# Altium footprint library 底板模块封装库.PcbLib: 15 footprints
Each footprint in its own frame and in the unit in brackets; x right, y up, seen from the top. Pads: shape width x height; smd on the part's side, far side on the other; paste and mask are expansions set on the pad; w line width, h text height; cw(c..) or ccw(c..) is an arc to the next point about the centre after c.
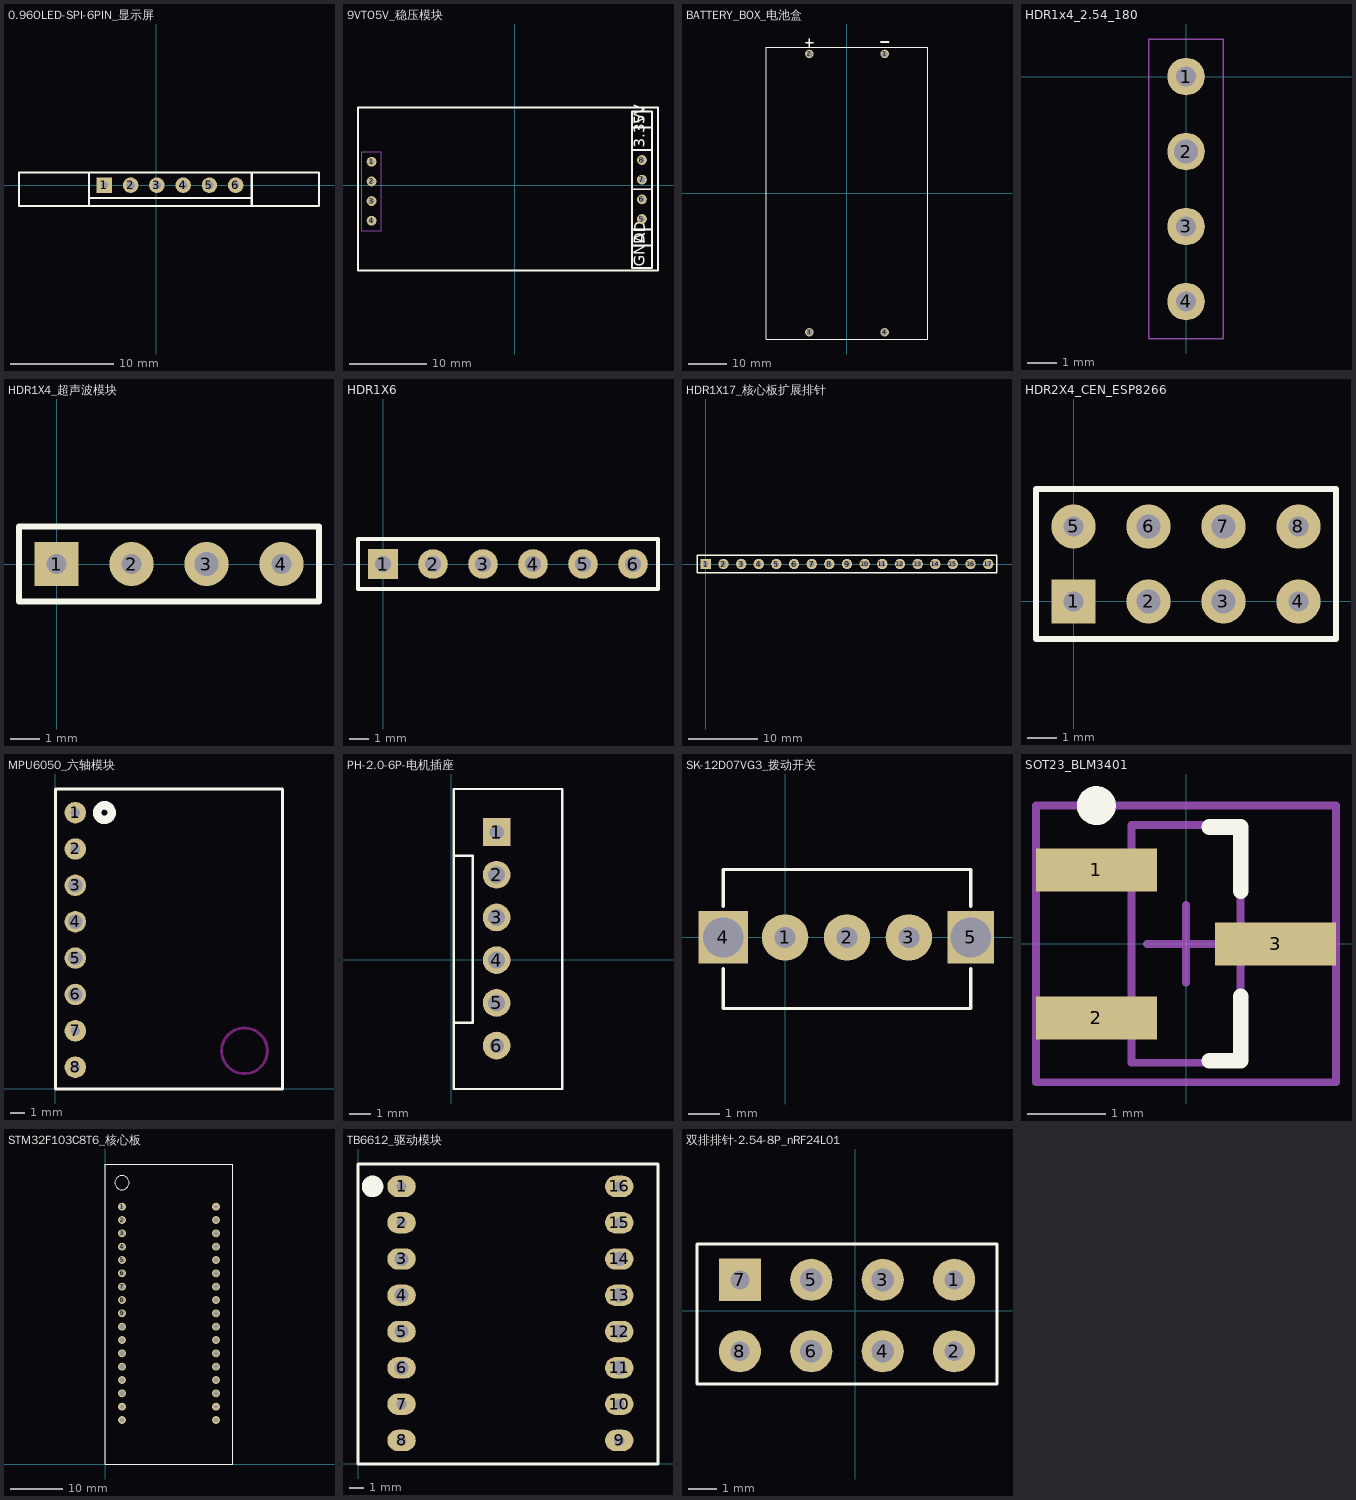
[diagram p0: the footprints below, top view; thin cyan lines are the x and y axes]

## 0.96OLED-SPI-6PIN_显示屏 [mm] "0.96OLED显示屏"
pads (6):
  rect 1.5x1.5 hole 0.68 unplated: 1(-5,0)
  round 1.5 hole 0.813 unplated: 2(-2.46,0) 3(0.08,0) 4(2.62,0)
  round 1.5 hole 0.813: 5(5.16,0)
  round 1.5 hole 0.68: 6(7.7,0)
Top Overlay:
  lines w0.1: -6.5,-1.27 9.25,-1.27 9.25,1.27 -6.5,1.27 -6.5,-1.27
  lines w0.2: -6.5,-2 -13.25,-2 -13.25,1.25 -6.5,1.25 ; -6.5,-2 9.25,-2 ; -6.5,-2 -6.5,-1.25 ; -6.5,-1.25 9.25,-1.25 ; -6.5,-1.25 -6.5,1.25 ; -6.5,1.25 9.25,1.25 ; 9.25,-2 15.75,-2 15.75,1.25 9.25,1.25 ; 9.25,-2 9.25,-1.25 ; 9.25,-1.25 9.25,1.25

## 9VTO5V_稳压模块 [mm]
pads (8):
  round 1.27 hole 0.68: 1(-18.495,3.025) 2(-18.495,0.485) 4(-18.495,-4.595) 5(16.424,-4.377) 6(16.424,-1.837) 8(16.424,3.243)
  round 1.27 hole 0.813: 3(-18.495,-2.055) 7(16.424,0.703)
Top Overlay:
  lines w0.254: 15.16,-7.77 17.7,-7.77 ; 15.16,-5.738 17.573,-5.738 ; 15.16,7.47 17.7,7.47 ; 17.573,4.549 15.16,4.549 ; 15.16,-0.531 17.7,-0.531 ; 15.16,-0.531 15.16,4.549 ; 15.16,-0.531 15.16,-10.691 17.7,-10.691 17.7,-0.531 ; 15.16,4.549 15.16,9.502 17.7,9.502 17.7,3.914 17.7,-0.531 ; -20.25,-11 18.5,-11 18.5,10 -20.25,10 -20.25,-11
  text "3.3V" at 16.811,4.803 h1.4
  text "5V" at 16.811,7.851 h1.4
  text "AD" at 16.826,-7.539 h1.4
  text "GND" at 16.811,-10.564 h1.4
Mechanical 15:
  lines w0.025: -18.749,-4.595 -18.241,-4.595 ; -18.495,-4.849 -18.495,-4.341 ; 16.17,-4.377 16.678,-4.377 ; 16.424,-4.631 16.424,-4.123
  lines w0.051: 15.154,-5.647 17.694,-5.647 17.694,4.513 15.154,4.513 ; -19.765,-5.865 -19.765,4.295 -17.225,4.295 -17.225,-5.865 -19.765,-5.865
3D body: height 8.2, standoff -3, extent -19.744,-5.865 -17.246,4.295
3D body: height 8.2, standoff -3, extent 15.175,-5.647 17.673,4.513

## BATTERY_BOX_电池盒 [mm]
pads (4):
  round 2.2 hole 1.6: 1(9.81,36.25) 2(-9.81,36.25) 3(-9.81,-36.25) 4(9.81,-36.25)
Top Overlay:
  lines w0.203: -21,-38 21,-38 21,38 -21,38 -21,-38
  lines w0.4: -10.795,39.116 -8.763,39.116 ; -9.779,38.1 -9.779,40.132
  lines w0.43: 8.763,39.37 10.795,39.37

## HDR1x4_2.54_180 [mm]
height 4.3
pads (4):
  round 1.27 hole 0.68: 1(0,0) 3(0,-5.08) 4(0,-7.62)
  round 1.27 hole 0.813: 2(0,-2.54)
Mechanical 15:
  lines w0.025: -0.254,0 0.254,0 ; 0,-0.254 0,0.254
  lines w0.051: -1.27,-8.89 -1.27,1.27 1.27,1.27 1.27,-8.89 -1.27,-8.89
3D body: height 8.2, standoff -3, extent -1.249,-8.89 1.249,1.27

## HDR1X4_超声波模块 [mm] "Connector; Header; 4 Position"
pads (4):
  rect 1.5x1.5 hole 0.68: 1(0,0)
  round 1.5 hole 0.68: 2(2.54,0) 4(7.62,0)
  round 1.5 hole 0.813: 3(5.08,0)
Top Overlay:
  lines w0.2: -1.27,-1.27 -1.27,1.27 8.89,1.27 8.89,-1.27 -1.27,-1.27

## HDR1X6 [mm] "Connector; Header; 6 Position"
height 0.9
pads (6):
  rect 1.5x1.5 hole 0.813: 1(0,0)
  round 1.5 hole 0.813: 2(2.54,0) 3(5.08,0) 4(7.62,0) 5(10.16,0) 6(12.7,0)
Top Overlay:
  lines w0.2: -1.27,-1.27 -1.27,1.27 13.97,1.27 13.97,-1.27 -1.27,-1.27

## HDR1X17_核心板扩展排针 [mm] "Connector; Header; 17 Position"
pads (17):
  rect 1.5x1.5 hole 0.8: 1(0,0)
  round 1.5 hole 0.813: 2(2.54,0) 3(5.08,0) 4(7.62,0) 5(10.16,0) 6(12.7,0) 7(15.24,0) 8(17.78,0) 9(20.32,0) 10(22.86,0) 11(25.4,0) 12(27.94,0) 13(30.48,0) 14(33.02,0) 15(35.56,0)
  round 1.5 hole 0.8: 16(38.1,0) 17(40.64,0)
Top Overlay:
  lines w0.2: -1.27,-1.27 41.91,-1.27 41.91,1.27 0.635,1.27 -1.27,1.27 -1.27,-1.27

## HDR2X4_CEN_ESP8266 [mm] "ESP8266"
pads (8):
  rect 1.5x1.5 hole 0.68: 1(0,0)
  round 1.5 hole 0.813: 2(2.54,0) 3(5.08,0) 6(2.54,2.54) 7(5.08,2.54)
  round 1.5 hole 0.68: 4(7.62,0) 5(0,2.54) 8(7.62,2.54)
Top Overlay:
  lines w0.2: -1.27,-1.27 -1.27,3.81 8.89,3.81 8.89,-1.27 -1.27,-1.27

## MPU6050_六轴模块 [mm]
pads (8):
  round 1.5 hole 0.68: 1(1.397,19.304) 2(1.397,16.764) 7(1.397,4.064) 8(1.397,1.524)
  round 1.5 hole 1: 3(1.397,14.224) 4(1.397,11.684) 5(1.397,9.144) 6(1.397,6.604)
Top Overlay:
  circle w0.6: c3.429,19.304 r0.508
  lines w0.203: 0,0 15.875,0 15.875,20.955 0,20.955 0,0
Keep-Out Layer:
  circle w0.203: c13.208,2.667 r1.6

## PH-2.0-6P-电机插座 [mm]
pads (6):
  rect 1.3x1.3 hole 0.68: 1(2.135,5.973)
  round 1.3 hole 0.8: 2(2.135,3.973) 3(2.135,1.973) 4(2.135,-0.027) 5(2.135,-2.027)
  round 1.3 hole 0.68: 6(2.135,-4.027)
Top Overlay:
  lines w0.1: 0.127,-2.96 1.016,-2.96 1.016,4.863 0.127,4.863 ; 0.127,-6.059 0.127,7.987 5.207,7.987 5.207,-6.059 0.127,-6.059
3D body: height 3, standoff 0, extent 1.576,5.625 2.592,6.336
3D body: height 3, standoff 0, extent 1.602,3.593 2.618,4.304
3D body: height 3, standoff 0, extent 1.652,1.612 2.668,2.323
3D body: height 3, standoff 0, extent 1.678,-0.395 2.694,0.316
3D body: height 3, standoff 0, extent 1.602,-2.376 2.618,-1.665
3D body: height 3, standoff 0, extent 1.602,-4.383 2.618,-3.671
3D body: height 1, standoff 0, extent 0.127,-6.109 5.207,8.037

## SK-12D07VG3_拨动开关 [mm] "拨动开关-F2.0"
pads (5):
  round 1.5 hole 0.68: 1(0,0) 2(2,0) 3(4,0)
  rect 1.6x1.7 hole 1.3: 4(-2,0)
  rect 1.5x1.7 hole 1.3: 5(6,0)
Top Overlay:
  lines w0.1: -2,-1 -2,-2.3 6,-2.3 6,-1 ; -2,1 -2,2.2 6,2.2 6,1

## SOT23_BLM3401 [mm] "SOT23"
height 1.1
pads (3):
  rect 1.55x0.55 smd: 1(-1.15,0.95) 2(-1.15,-0.95) 3(1.15,0)
Top Overlay:
  circle w0.25: c-1.15,1.775 r0.125
  lines w0.2: 0.3,-1.5 0.7,-1.5 0.7,-0.675 ; 0.3,1.5 0.7,1.5 0.7,0.675
Mechanical 13:
  lines w0.1: -0.7,-1.525 -0.7,1.525 0.7,1.525 0.7,-1.525 -0.7,-1.525
Mechanical 15:
  lines w0.1: -0.5,0 0.5,0 ; 0,-0.5 0,0.5 ; -1.925,-1.775 -1.925,1.775 1.925,1.775 1.925,-1.775 -1.925,-1.775
3D body: height 1.3, standoff 0, extent -1.4,-1.45 1.4,1.45

## STM32F103C8T6_核心板 [mm]
pads (34):
  round 1.5 hole 0.68: 1(3.175,49.022) 16(3.175,10.922) 17(3.175,8.382) 18(21.082,8.382) 19(21.082,10.922) 34(21.082,49.022)
  round 1.5 hole 1: 2(3.175,46.482) 3(3.175,43.942) 4(3.175,41.402) 5(3.175,38.862) 6(3.175,36.322) 7(3.175,33.782) 8(3.175,31.242) 9(3.175,28.702) 10(3.175,26.162) 11(3.175,23.622) 12(3.175,21.082) 13(3.175,18.542) 14(3.175,16.002) 15(3.175,13.462) 20(21.082,13.462) 21(21.082,16.002) 22(21.082,18.542) 23(21.082,21.082) 24(21.082,23.622) 25(21.082,26.162) 26(21.082,28.702) 27(21.082,31.242) 28(21.082,33.782) 29(21.082,36.322) 30(21.082,38.862) 31(21.082,41.402) 32(21.082,43.942) 33(21.082,46.482)
Top Overlay:
  circle w0.203: c3.175,53.594 r1.35
  lines w0.203: 0,0 0,57.15 24.257,57.15 24.257,0 0,0

## TB6612_驱动模块 [mm]
pads (16):
  oval 2x1.5 hole 0.72: 1(3.048,19.431) 2(3.048,16.891) 7(3.048,4.191) 8(3.048,1.651) 9(18.288,1.651) 10(18.288,4.191) 15(18.288,16.891) 16(18.288,19.431)
  oval 2x1.5 hole 1: 3(3.048,14.351) 4(3.048,11.811) 5(3.048,9.271) 6(3.048,6.731) 11(18.288,6.731) 12(18.288,9.271) 13(18.288,11.811) 14(18.288,14.351)
Top Overlay:
  circle w1: c1.016,19.431 r0.254
  lines w0.203: 0,0 21,0 21,21 0,21 0,0

## 双排排针-2.54-8P_nRF24L01 [mm] "nRF24L01"
pads (8):
  round 1.5 hole 0.68: 1(3.52,1.1) 2(3.52,-1.44) 8(-4.1,-1.44)
  round 1.5 hole 0.813: 3(0.98,1.1) 4(0.98,-1.44) 5(-1.56,1.1) 6(-1.56,-1.44)
  rect 1.5x1.5 hole 0.68: 7(-4.1,1.1)
Top Overlay:
  lines w0.1: -5.624,-2.6 -5.624,2.37 5.044,2.37 5.044,-2.6 -5.624,-2.6